# Altium footprint library Connector_FFC-FPC.PcbLib: 372 footprints (part 20 of 24)
Each footprint in its own frame and in the unit in brackets; x right, y up, seen from the top. Pads: shape width x height; smd on the part's side, far side on the other; paste and mask are expansions set on the pad; w line width, h text height; cw(c..) or ccw(c..) is an arc to the next point about the centre after c.
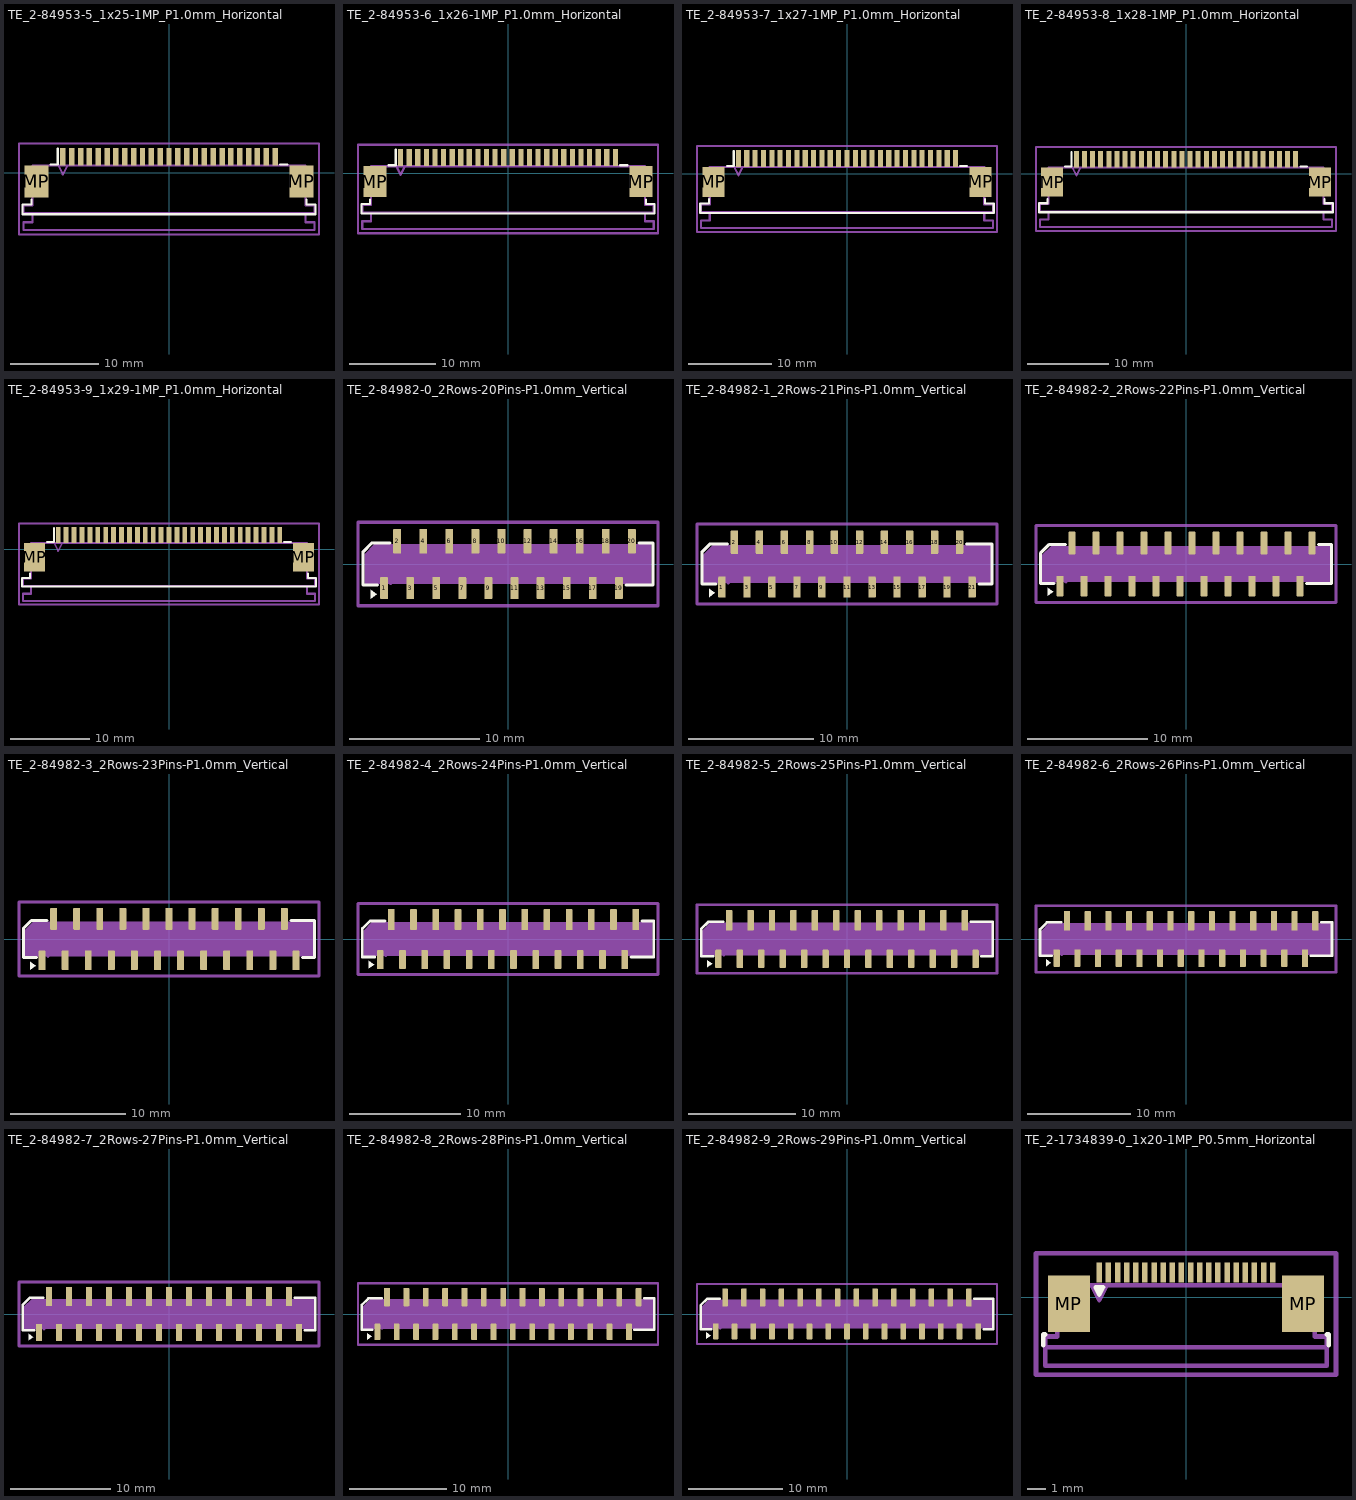
[diagram p19: the footprints below, top view; thin cyan lines are the x and y axes]

## TE_2-84953-5_1x25-1MP_P1.0mm_Horizontal [mm]
pads (27):
  rect 0.61x2 smd: 1(-12,1.8) 2(-11,1.8) 3(-10,1.8) 4(-9,1.8) 5(-8,1.8) 6(-7,1.8) 7(-6,1.8) 8(-5,1.8) 9(-4,1.8) 10(-3,1.8) 11(-2,1.8) 12(-1,1.8) 13(0,1.8) 14(1,1.8) 15(2,1.8) 16(3,1.8) 17(4,1.8) 18(5,1.8) 19(6,1.8) 20(7,1.8) 21(8,1.8) 22(9,1.8) 23(10,1.8) 24(11,1.8) 25(12,1.8)
  rect 2.68x3.6 smd: MP(-14.99,-1) MP(14.99,-1)
F.SilkS:
  lines w0.254: -15.545,-3.06 -15.545,-3.6 -16.57,-3.6 -16.57,-4.71 16.57,-4.71 16.57,-3.6 15.545,-3.6 15.545,-3.06 ; -13.39,0.91 -12.565,0.91 -12.565,2.71 ; 12.565,0.91 13.39,0.91
Top Assembly:
  lines w0.254: -15.435,-4.6 -15.435,-5.61 -16.46,-5.61 -16.46,-6.5 16.46,-6.5 16.46,-5.61 15.435,-5.61 15.435,-4.6 ; -12.5,0.8 -12,-0.2 -11.5,0.8 ; -16.46,-4.6 16.46,-4.6 16.46,-3.71 15.435,-3.71 15.435,0.8 -15.435,0.8 -15.435,-3.71 -16.46,-3.71 -16.46,-4.6
  text "'.Designator'" at -4.047,-2.74 h1
Top Courtyard:
  lines w0.254: -16.96,-7 16.96,-7 16.96,3.3 -16.96,3.3 -16.96,-7
Top Designator:
  text ".Designator" at -7.618,-2.358 h1.52

## TE_2-84953-6_1x26-1MP_P1.0mm_Horizontal [mm]
pads (28):
  rect 0.61x2 smd: 1(-12.5,1.8) 2(-11.5,1.8) 3(-10.5,1.8) 4(-9.5,1.8) 5(-8.5,1.8) 6(-7.5,1.8) 7(-6.5,1.8) 8(-5.5,1.8) 9(-4.5,1.8) 10(-3.5,1.8) 11(-2.5,1.8) 12(-1.5,1.8) 13(-0.5,1.8) 14(0.5,1.8) 15(1.5,1.8) 16(2.5,1.8) 17(3.5,1.8) 18(4.5,1.8) 19(5.5,1.8) 20(6.5,1.8) 21(7.5,1.8) 22(8.5,1.8) 23(9.5,1.8) 24(10.5,1.8) 25(11.5,1.8) 26(12.5,1.8)
  rect 2.68x3.6 smd: MP(-15.49,-1) MP(15.49,-1)
F.SilkS:
  lines w0.254: -16.045,-3.06 -16.045,-3.6 -17.07,-3.6 -17.07,-4.71 17.07,-4.71 17.07,-3.6 16.045,-3.6 16.045,-3.06 ; -13.89,0.91 -13.065,0.91 -13.065,2.71 ; 13.065,0.91 13.89,0.91
Top Assembly:
  lines w0.254: -15.935,-4.6 -15.935,-5.61 -16.96,-5.61 -16.96,-6.5 16.96,-6.5 16.96,-5.61 15.935,-5.61 15.935,-4.6 ; -13,0.8 -12.5,-0.2 -12,0.8 ; -16.96,-4.6 16.96,-4.6 16.96,-3.71 15.935,-3.71 15.935,0.8 -15.935,0.8 -15.935,-3.71 -16.96,-3.71 -16.96,-4.6
  text "'.Designator'" at -4.047,-2.74 h1
Top Courtyard:
  lines w0.254: -17.46,-7 17.46,-7 17.46,3.3 -17.46,3.3 -17.46,-7
Top Designator:
  text ".Designator" at -7.618,-2.358 h1.52

## TE_2-84953-7_1x27-1MP_P1.0mm_Horizontal [mm]
pads (29):
  rect 0.61x2 smd: 1(-13,1.8) 2(-12,1.8) 3(-11,1.8) 4(-10,1.8) 5(-9,1.8) 6(-8,1.8) 7(-7,1.8) 8(-6,1.8) 9(-5,1.8) 10(-4,1.8) 11(-3,1.8) 12(-2,1.8) 13(-1,1.8) 14(0,1.8) 15(1,1.8) 16(2,1.8) 17(3,1.8) 18(4,1.8) 19(5,1.8) 20(6,1.8) 21(7,1.8) 22(8,1.8) 23(9,1.8) 24(10,1.8) 25(11,1.8) 26(12,1.8) 27(13,1.8)
  rect 2.68x3.6 smd: MP(-15.99,-1) MP(15.99,-1)
F.SilkS:
  lines w0.254: -16.545,-3.06 -16.545,-3.6 -17.57,-3.6 -17.57,-4.71 17.57,-4.71 17.57,-3.6 16.545,-3.6 16.545,-3.06 ; -14.39,0.91 -13.565,0.91 -13.565,2.71 ; 13.565,0.91 14.39,0.91
Top Assembly:
  lines w0.254: -16.435,-4.6 -16.435,-5.61 -17.46,-5.61 -17.46,-6.5 17.46,-6.5 17.46,-5.61 16.435,-5.61 16.435,-4.6 ; -13.5,0.8 -13,-0.2 -12.5,0.8 ; -17.46,-4.6 17.46,-4.6 17.46,-3.71 16.435,-3.71 16.435,0.8 -16.435,0.8 -16.435,-3.71 -17.46,-3.71 -17.46,-4.6
  text "'.Designator'" at -4.047,-2.74 h1
Top Courtyard:
  lines w0.254: -17.96,-7 17.96,-7 17.96,3.3 -17.96,3.3 -17.96,-7
Top Designator:
  text ".Designator" at -7.618,-2.358 h1.52

## TE_2-84953-8_1x28-1MP_P1.0mm_Horizontal [mm]
pads (30):
  rect 0.61x2 smd: 1(-13.5,1.8) 2(-12.5,1.8) 3(-11.5,1.8) 4(-10.5,1.8) 5(-9.5,1.8) 6(-8.5,1.8) 7(-7.5,1.8) 8(-6.5,1.8) 9(-5.5,1.8) 10(-4.5,1.8) 11(-3.5,1.8) 12(-2.5,1.8) 13(-1.5,1.8) 14(-0.5,1.8) 15(0.5,1.8) 16(1.5,1.8) 17(2.5,1.8) 18(3.5,1.8) 19(4.5,1.8) 20(5.5,1.8) 21(6.5,1.8) 22(7.5,1.8) 23(8.5,1.8) 24(9.5,1.8) 25(10.5,1.8) 26(11.5,1.8) 27(12.5,1.8) 28(13.5,1.8)
  rect 2.68x3.6 smd: MP(-16.49,-1) MP(16.49,-1)
F.SilkS:
  lines w0.254: -17.045,-3.06 -17.045,-3.6 -18.07,-3.6 -18.07,-4.71 18.07,-4.71 18.07,-3.6 17.045,-3.6 17.045,-3.06 ; -14.89,0.91 -14.065,0.91 -14.065,2.71 ; 14.065,0.91 14.89,0.91
Top Assembly:
  lines w0.254: -16.935,-4.6 -16.935,-5.61 -17.96,-5.61 -17.96,-6.5 17.96,-6.5 17.96,-5.61 16.935,-5.61 16.935,-4.6 ; -14,0.8 -13.5,-0.2 -13,0.8 ; -17.96,-4.6 17.96,-4.6 17.96,-3.71 16.935,-3.71 16.935,0.8 -16.935,0.8 -16.935,-3.71 -17.96,-3.71 -17.96,-4.6
  text "'.Designator'" at -4.047,-2.74 h1
Top Courtyard:
  lines w0.254: -18.46,-7 18.46,-7 18.46,3.3 -18.46,3.3 -18.46,-7
Top Designator:
  text ".Designator" at -7.618,-2.358 h1.52

## TE_2-84953-9_1x29-1MP_P1.0mm_Horizontal [mm]
pads (31):
  rect 0.61x2 smd: 1(-14,1.8) 2(-13,1.8) 3(-12,1.8) 4(-11,1.8) 5(-10,1.8) 6(-9,1.8) 7(-8,1.8) 8(-7,1.8) 9(-6,1.8) 10(-5,1.8) 11(-4,1.8) 12(-3,1.8) 13(-2,1.8) 14(-1,1.8) 15(0,1.8) 16(1,1.8) 17(2,1.8) 18(3,1.8) 19(4,1.8) 20(5,1.8) 21(6,1.8) 22(7,1.8) 23(8,1.8) 24(9,1.8) 25(10,1.8) 26(11,1.8) 27(12,1.8) 28(13,1.8) 29(14,1.8)
  rect 2.68x3.6 smd: MP(-16.99,-1) MP(16.99,-1)
F.SilkS:
  lines w0.254: -17.545,-3.06 -17.545,-3.6 -18.57,-3.6 -18.57,-4.71 18.57,-4.71 18.57,-3.6 17.545,-3.6 17.545,-3.06 ; -15.39,0.91 -14.565,0.91 -14.565,2.71 ; 14.565,0.91 15.39,0.91
Top Assembly:
  lines w0.254: -17.435,-4.6 -17.435,-5.61 -18.46,-5.61 -18.46,-6.5 18.46,-6.5 18.46,-5.61 17.435,-5.61 17.435,-4.6 ; -14.5,0.8 -14,-0.2 -13.5,0.8 ; -18.46,-4.6 18.46,-4.6 18.46,-3.71 17.435,-3.71 17.435,0.8 -17.435,0.8 -17.435,-3.71 -18.46,-3.71 -18.46,-4.6
  text "'.Designator'" at -4.047,-2.74 h1
Top Courtyard:
  lines w0.254: -18.96,-7 18.96,-7 18.96,3.3 -18.96,3.3 -18.96,-7
Top Designator:
  text ".Designator" at -7.618,-2.358 h1.52

## TE_2-84982-0_2Rows-20Pins-P1.0mm_Vertical [mm]
pads (20):
  rrect25% 0.6x1.7 smd: 1(-9.5,-1.85) 3(-7.5,-1.85) 5(-5.5,-1.85) 7(-3.5,-1.85) 9(-1.5,-1.85) 11(0.5,-1.85) 13(2.5,-1.85) 15(4.5,-1.85) 17(6.5,-1.85) 19(8.5,-1.85)
  rrect25% 0.6x1.9 smd: 2(-8.5,1.75) 4(-6.5,1.75) 6(-4.5,1.75) 8(-2.5,1.75) 10(-0.5,1.75) 12(1.5,1.75) 14(3.5,1.75) 16(5.5,1.75) 18(7.5,1.75) 20(9.5,1.75)
F.SilkS:
  region: -10.06,-2.31 -10.53,-2.65 -10.53,-1.97
  lines w0.254: -10,-1.61 -11.11,-1.61 -11.11,0.934 -10.434,1.61 -9.06,1.61 ; 9.06,-1.61 11.11,-1.61 11.11,1.61 10.06,1.61
Top Assembly:
  region: 11,-1.5 -11,-1.5 -11,0.75 -10.25,1.5 11,1.5
  lines w0.254: -10,-1.5 -9.5,-0.7 -9,-1.5
  text "'.Designator'" at -4.047,-0.84 h1
Top Courtyard:
  lines w0.254: -11.5,-3.2 11.5,-3.2 11.5,3.2 -11.5,3.2 -11.5,-3.2
Top Designator:
  text ".Designator" at -7.618,-0.508 h1.52

## TE_2-84982-1_2Rows-21Pins-P1.0mm_Vertical [mm]
pads (21):
  rrect25% 0.6x1.7 smd: 1(-10,-1.85) 3(-8,-1.85) 5(-6,-1.85) 7(-4,-1.85) 9(-2,-1.85) 11(0,-1.85) 13(2,-1.85) 15(4,-1.85) 17(6,-1.85) 19(8,-1.85) 21(10,-1.85)
  rrect25% 0.6x1.9 smd: 2(-9,1.75) 4(-7,1.75) 6(-5,1.75) 8(-3,1.75) 10(-1,1.75) 12(1,1.75) 14(3,1.75) 16(5,1.75) 18(7,1.75) 20(9,1.75)
F.SilkS:
  region: -10.56,-2.31 -11.03,-2.65 -11.03,-1.97
  lines w0.254: -10.5,-1.61 -11.61,-1.61 -11.61,0.934 -10.934,1.61 -9.56,1.61 ; 9.56,1.61 11.61,1.61 11.61,-1.61 10.56,-1.61
Top Assembly:
  region: 11.5,-1.5 -11.5,-1.5 -11.5,0.75 -10.75,1.5 11.5,1.5
  lines w0.254: -10.5,-1.5 -10,-0.7 -9.5,-1.5
  text "'.Designator'" at -4.047,-0.84 h1
Top Courtyard:
  lines w0.254: -12,-3.2 12,-3.2 12,3.2 -12,3.2 -12,-3.2
Top Designator:
  text ".Designator" at -7.618,-0.508 h1.52

## TE_2-84982-2_2Rows-22Pins-P1.0mm_Vertical [mm]
pads (22):
  rrect25% 0.6x1.7 smd: 1(-10.5,-1.85) 3(-8.5,-1.85) 5(-6.5,-1.85) 7(-4.5,-1.85) 9(-2.5,-1.85) 11(-0.5,-1.85) 13(1.5,-1.85) 15(3.5,-1.85) 17(5.5,-1.85) 19(7.5,-1.85) 21(9.5,-1.85)
  rrect25% 0.6x1.9 smd: 2(-9.5,1.75) 4(-7.5,1.75) 6(-5.5,1.75) 8(-3.5,1.75) 10(-1.5,1.75) 12(0.5,1.75) 14(2.5,1.75) 16(4.5,1.75) 18(6.5,1.75) 20(8.5,1.75) 22(10.5,1.75)
F.SilkS:
  region: -11.06,-2.31 -11.53,-2.65 -11.53,-1.97
  lines w0.254: -11,-1.61 -12.11,-1.61 -12.11,0.934 -11.434,1.61 -10.06,1.61 ; 10.06,-1.61 12.11,-1.61 12.11,1.61 11.06,1.61
Top Assembly:
  region: 12,-1.5 -12,-1.5 -12,0.75 -11.25,1.5 12,1.5
  lines w0.254: -11,-1.5 -10.5,-0.7 -10,-1.5
  text "'.Designator'" at -4.047,-0.84 h1
Top Courtyard:
  lines w0.254: -12.5,-3.2 12.5,-3.2 12.5,3.2 -12.5,3.2 -12.5,-3.2
Top Designator:
  text ".Designator" at -7.618,-0.508 h1.52

## TE_2-84982-3_2Rows-23Pins-P1.0mm_Vertical [mm]
pads (23):
  rrect25% 0.6x1.7 smd: 1(-11,-1.85) 3(-9,-1.85) 5(-7,-1.85) 7(-5,-1.85) 9(-3,-1.85) 11(-1,-1.85) 13(1,-1.85) 15(3,-1.85) 17(5,-1.85) 19(7,-1.85) 21(9,-1.85) 23(11,-1.85)
  rrect25% 0.6x1.9 smd: 2(-10,1.75) 4(-8,1.75) 6(-6,1.75) 8(-4,1.75) 10(-2,1.75) 12(0,1.75) 14(2,1.75) 16(4,1.75) 18(6,1.75) 20(8,1.75) 22(10,1.75)
F.SilkS:
  region: -11.56,-2.31 -12.03,-2.65 -12.03,-1.97
  lines w0.254: -11.5,-1.61 -12.61,-1.61 -12.61,0.934 -11.934,1.61 -10.56,1.61 ; 10.56,1.61 12.61,1.61 12.61,-1.61 11.56,-1.61
Top Assembly:
  region: 12.5,-1.5 -12.5,-1.5 -12.5,0.75 -11.75,1.5 12.5,1.5
  lines w0.254: -11.5,-1.5 -11,-0.7 -10.5,-1.5
  text "'.Designator'" at -4.047,-0.84 h1
Top Courtyard:
  lines w0.254: -13,-3.2 13,-3.2 13,3.2 -13,3.2 -13,-3.2
Top Designator:
  text ".Designator" at -7.618,-0.508 h1.52

## TE_2-84982-4_2Rows-24Pins-P1.0mm_Vertical [mm]
pads (24):
  rrect25% 0.6x1.7 smd: 1(-11.5,-1.85) 3(-9.5,-1.85) 5(-7.5,-1.85) 7(-5.5,-1.85) 9(-3.5,-1.85) 11(-1.5,-1.85) 13(0.5,-1.85) 15(2.5,-1.85) 17(4.5,-1.85) 19(6.5,-1.85) 21(8.5,-1.85) 23(10.5,-1.85)
  rrect25% 0.6x1.9 smd: 2(-10.5,1.75) 4(-8.5,1.75) 6(-6.5,1.75) 8(-4.5,1.75) 10(-2.5,1.75) 12(-0.5,1.75) 14(1.5,1.75) 16(3.5,1.75) 18(5.5,1.75) 20(7.5,1.75) 22(9.5,1.75) 24(11.5,1.75)
F.SilkS:
  region: -12.06,-2.31 -12.53,-2.65 -12.53,-1.97
  lines w0.254: -12,-1.61 -13.11,-1.61 -13.11,0.934 -12.434,1.61 -11.06,1.61 ; 11.06,-1.61 13.11,-1.61 13.11,1.61 12.06,1.61
Top Assembly:
  region: 13,-1.5 -13,-1.5 -13,0.75 -12.25,1.5 13,1.5
  lines w0.254: -12,-1.5 -11.5,-0.7 -11,-1.5
  text "'.Designator'" at -4.047,-0.84 h1
Top Courtyard:
  lines w0.254: -13.5,-3.2 13.5,-3.2 13.5,3.2 -13.5,3.2 -13.5,-3.2
Top Designator:
  text ".Designator" at -7.618,-0.508 h1.52

## TE_2-84982-5_2Rows-25Pins-P1.0mm_Vertical [mm]
pads (25):
  rrect25% 0.6x1.7 smd: 1(-12,-1.85) 3(-10,-1.85) 5(-8,-1.85) 7(-6,-1.85) 9(-4,-1.85) 11(-2,-1.85) 13(0,-1.85) 15(2,-1.85) 17(4,-1.85) 19(6,-1.85) 21(8,-1.85) 23(10,-1.85) 25(12,-1.85)
  rrect25% 0.6x1.9 smd: 2(-11,1.75) 4(-9,1.75) 6(-7,1.75) 8(-5,1.75) 10(-3,1.75) 12(-1,1.75) 14(1,1.75) 16(3,1.75) 18(5,1.75) 20(7,1.75) 22(9,1.75) 24(11,1.75)
F.SilkS:
  region: -12.56,-2.31 -13.03,-2.65 -13.03,-1.97
  lines w0.254: -12.5,-1.61 -13.61,-1.61 -13.61,0.934 -12.934,1.61 -11.56,1.61 ; 11.56,1.61 13.61,1.61 13.61,-1.61 12.56,-1.61
Top Assembly:
  region: 13.5,-1.5 -13.5,-1.5 -13.5,0.75 -12.75,1.5 13.5,1.5
  lines w0.254: -12.5,-1.5 -12,-0.7 -11.5,-1.5
  text "'.Designator'" at -4.047,-0.84 h1
Top Courtyard:
  lines w0.254: -14,-3.2 14,-3.2 14,3.2 -14,3.2 -14,-3.2
Top Designator:
  text ".Designator" at -7.618,-0.508 h1.52

## TE_2-84982-6_2Rows-26Pins-P1.0mm_Vertical [mm]
pads (26):
  rrect25% 0.6x1.7 smd: 1(-12.5,-1.85) 3(-10.5,-1.85) 5(-8.5,-1.85) 7(-6.5,-1.85) 9(-4.5,-1.85) 11(-2.5,-1.85) 13(-0.5,-1.85) 15(1.5,-1.85) 17(3.5,-1.85) 19(5.5,-1.85) 21(7.5,-1.85) 23(9.5,-1.85) 25(11.5,-1.85)
  rrect25% 0.6x1.9 smd: 2(-11.5,1.75) 4(-9.5,1.75) 6(-7.5,1.75) 8(-5.5,1.75) 10(-3.5,1.75) 12(-1.5,1.75) 14(0.5,1.75) 16(2.5,1.75) 18(4.5,1.75) 20(6.5,1.75) 22(8.5,1.75) 24(10.5,1.75) 26(12.5,1.75)
F.SilkS:
  region: -13.06,-2.31 -13.53,-2.65 -13.53,-1.97
  lines w0.254: -13,-1.61 -14.11,-1.61 -14.11,0.934 -13.434,1.61 -12.06,1.61 ; 12.06,-1.61 14.11,-1.61 14.11,1.61 13.06,1.61
Top Assembly:
  region: 14,-1.5 -14,-1.5 -14,0.75 -13.25,1.5 14,1.5
  lines w0.254: -13,-1.5 -12.5,-0.7 -12,-1.5
  text "'.Designator'" at -4.047,-0.84 h1
Top Courtyard:
  lines w0.254: -14.5,-3.2 14.5,-3.2 14.5,3.2 -14.5,3.2 -14.5,-3.2
Top Designator:
  text ".Designator" at -7.618,-0.508 h1.52

## TE_2-84982-7_2Rows-27Pins-P1.0mm_Vertical [mm]
pads (27):
  rrect25% 0.6x1.7 smd: 1(-13,-1.85) 3(-11,-1.85) 5(-9,-1.85) 7(-7,-1.85) 9(-5,-1.85) 11(-3,-1.85) 13(-1,-1.85) 15(1,-1.85) 17(3,-1.85) 19(5,-1.85) 21(7,-1.85) 23(9,-1.85) 25(11,-1.85) 27(13,-1.85)
  rrect25% 0.6x1.9 smd: 2(-12,1.75) 4(-10,1.75) 6(-8,1.75) 8(-6,1.75) 10(-4,1.75) 12(-2,1.75) 14(0,1.75) 16(2,1.75) 18(4,1.75) 20(6,1.75) 22(8,1.75) 24(10,1.75) 26(12,1.75)
F.SilkS:
  region: -13.56,-2.31 -14.03,-2.65 -14.03,-1.97
  lines w0.254: -13.5,-1.61 -14.61,-1.61 -14.61,0.934 -13.934,1.61 -12.56,1.61 ; 12.56,1.61 14.61,1.61 14.61,-1.61 13.56,-1.61
Top Assembly:
  region: 14.5,-1.5 -14.5,-1.5 -14.5,0.75 -13.75,1.5 14.5,1.5
  lines w0.254: -13.5,-1.5 -13,-0.7 -12.5,-1.5
  text "'.Designator'" at -4.047,-0.84 h1
Top Courtyard:
  lines w0.254: -15,-3.2 15,-3.2 15,3.2 -15,3.2 -15,-3.2
Top Designator:
  text ".Designator" at -7.618,-0.508 h1.52

## TE_2-84982-8_2Rows-28Pins-P1.0mm_Vertical [mm]
pads (28):
  rrect25% 0.6x1.7 smd: 1(-13.5,-1.85) 3(-11.5,-1.85) 5(-9.5,-1.85) 7(-7.5,-1.85) 9(-5.5,-1.85) 11(-3.5,-1.85) 13(-1.5,-1.85) 15(0.5,-1.85) 17(2.5,-1.85) 19(4.5,-1.85) 21(6.5,-1.85) 23(8.5,-1.85) 25(10.5,-1.85) 27(12.5,-1.85)
  rrect25% 0.6x1.9 smd: 2(-12.5,1.75) 4(-10.5,1.75) 6(-8.5,1.75) 8(-6.5,1.75) 10(-4.5,1.75) 12(-2.5,1.75) 14(-0.5,1.75) 16(1.5,1.75) 18(3.5,1.75) 20(5.5,1.75) 22(7.5,1.75) 24(9.5,1.75) 26(11.5,1.75) 28(13.5,1.75)
F.SilkS:
  region: -14.06,-2.31 -14.53,-2.65 -14.53,-1.97
  lines w0.254: -14,-1.61 -15.11,-1.61 -15.11,0.934 -14.434,1.61 -13.06,1.61 ; 13.06,-1.61 15.11,-1.61 15.11,1.61 14.06,1.61
Top Assembly:
  region: 15,-1.5 -15,-1.5 -15,0.75 -14.25,1.5 15,1.5
  lines w0.254: -14,-1.5 -13.5,-0.7 -13,-1.5
  text "'.Designator'" at -4.047,-0.84 h1
Top Courtyard:
  lines w0.254: -15.5,-3.2 15.5,-3.2 15.5,3.2 -15.5,3.2 -15.5,-3.2
Top Designator:
  text ".Designator" at -7.618,-0.508 h1.52

## TE_2-84982-9_2Rows-29Pins-P1.0mm_Vertical [mm]
pads (29):
  rrect25% 0.6x1.7 smd: 1(-14,-1.85) 3(-12,-1.85) 5(-10,-1.85) 7(-8,-1.85) 9(-6,-1.85) 11(-4,-1.85) 13(-2,-1.85) 15(0,-1.85) 17(2,-1.85) 19(4,-1.85) 21(6,-1.85) 23(8,-1.85) 25(10,-1.85) 27(12,-1.85) 29(14,-1.85)
  rrect25% 0.6x1.9 smd: 2(-13,1.75) 4(-11,1.75) 6(-9,1.75) 8(-7,1.75) 10(-5,1.75) 12(-3,1.75) 14(-1,1.75) 16(1,1.75) 18(3,1.75) 20(5,1.75) 22(7,1.75) 24(9,1.75) 26(11,1.75) 28(13,1.75)
F.SilkS:
  region: -14.56,-2.31 -15.03,-2.65 -15.03,-1.97
  lines w0.254: -14.5,-1.61 -15.61,-1.61 -15.61,0.934 -14.934,1.61 -13.56,1.61 ; 13.56,1.61 15.61,1.61 15.61,-1.61 14.56,-1.61
Top Assembly:
  region: 15.5,-1.5 -15.5,-1.5 -15.5,0.75 -14.75,1.5 15.5,1.5
  lines w0.254: -14.5,-1.5 -14,-0.7 -13.5,-1.5
  text "'.Designator'" at -4.047,-0.84 h1
Top Courtyard:
  lines w0.254: -16,-3.2 16,-3.2 16,3.2 -16,3.2 -16,-3.2
Top Designator:
  text ".Designator" at -7.618,-0.508 h1.52

## TE_2-1734839-0_1x20-1MP_P0.5mm_Horizontal [mm]
pads (22):
  rect 0.3x1.1 smd: 1(-4.75,1.35) 2(-4.25,1.35) 3(-3.75,1.35) 4(-3.25,1.35) 5(-2.75,1.35) 6(-2.25,1.35) 7(-1.75,1.35) 8(-1.25,1.35) 9(-0.75,1.35) 10(-0.25,1.35) 11(0.25,1.35) 12(0.75,1.35) 13(1.25,1.35) 14(1.75,1.35) 15(2.25,1.35) 16(2.75,1.35) 17(3.25,1.35) 18(3.75,1.35) 19(4.25,1.35) 20(4.75,1.35)
  rect 2.3x3.1 smd: MP(-6.42,-0.35) MP(6.42,-0.35)
F.SilkS:
  lines w0.254: -7.825,-2.64 -7.825,-2.04 -7.715,-2.04 ; 7.715,-2.04 7.825,-2.04 7.825,-2.64 ; -4.95,0.55 -4.55,0.55 -4.75,0.15 -4.95,0.55
Top Assembly:
  lines w0.254: -5.15,0.65 -4.75,-0.15 -4.35,0.65 ; -7.715,-3.75 7.715,-3.75 7.715,-2.15 7.06,-2.15 7.06,0.65 -7.06,0.65 -7.06,-2.15 -7.715,-2.15 -7.715,-3.75
  text "'.Designator'" at -4.047,-2.39 h1
Top Courtyard:
  lines w0.254: -8.22,-4.25 8.22,-4.25 8.22,2.41 -8.22,2.41 -8.22,-4.25
Top Designator:
  text ".Designator" at -7.618,-1.428 h1.52
Dwgs.User:
  lines w0.254: -7.605,-2.75 7.605,-2.75
  text "PCB Edge" at -1.728,-3.663 h0.5